# EAGLE library part AS-ITM-00089 (library tinycircuits)
Gyroscopes Mems Sensor 3-Axis 2.4 to 3.6 V Gyro
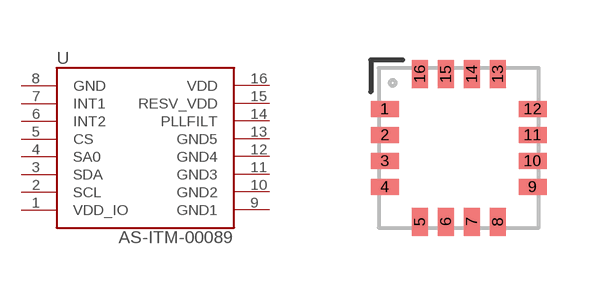
[diagram p35: symbol with the pads of L3G4200D; footprint L3G4200D]

Designator prefix U

## AS-ITM-00089 (PARTNO: AS-ITM-00089; VALUE: L3G4200D)  [L3G4200D]
1  VDD_IO
2  SCL
3  SDA
4  SA0
5  CS
6  INT2
7  INT1
8  GND
9  GND1
10  GND2
11  GND3
12  GND4
13  GND5
14  PLLFILT
15  RESV_VDD
16  VDD

## Footprint L3G4200D (pad centres in mm)
smd 0.7 x 0.4: 1 -1.85,0.975; 2 -1.85,0.325; 3 -1.85,-0.325; 4 -1.85,-0.975; 9 1.85,-0.975; 10 1.85,-0.325; 11 1.85,0.325; 12 1.85,0.975
smd 0.4 x 0.7: 5 -0.975,-1.85; 6 -0.325,-1.85; 7 0.325,-1.85; 8 0.975,-1.85; 13 0.975,1.85; 14 0.325,1.85; 15 -0.325,1.85; 16 -0.975,1.85